# Altium schematic symbol library resistance.SchLib: 2 symbols
Pins are listed as number, name and electrical type; pins without a type are passive.

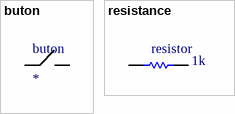
[diagram p0: symbols buton to resistance]

## buton
designator buton
footprint buton
pins: 1, 2

## resistance
designator resistor  value 1k  (hidden comment: *)
signal-integrity model resistor (Model Description)
pins: 1, 2